# Altium schematic symbol library IC DCDC.SchLib: 15 symbols
Pins are listed as number, name and electrical type; pins without a type are passive.

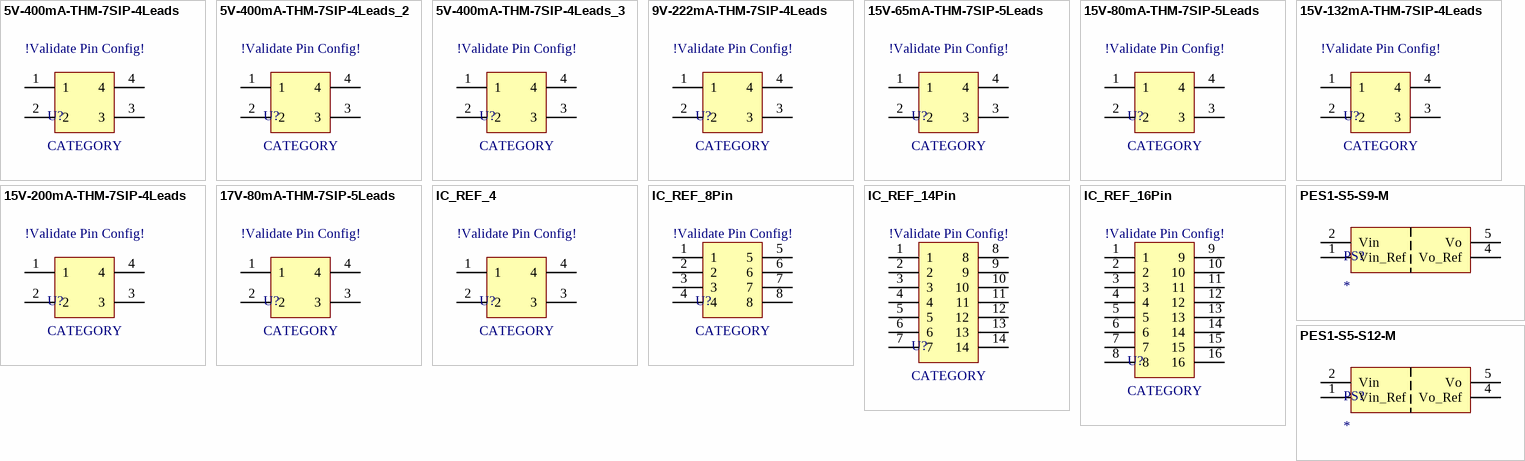
[diagram p0: symbols 5V-400mA-THM-7SIP-4Leads to PES1-S5-S12-M]

## 5V-400mA-THM-7SIP-4Leads
designator U?, comment CATEGORY
DC DC CONVERTER 5V 2W; ManufacturerReference: MEJ2S1505SC; Manufacturer: Murata Power Solutions Inc.; InventoryNumber: PD016; OutputCurrent: 400mA; Distributor: Digikey; DistributorReference: 811-2388-ND; PackageReference: 7SIP-4Leads; OutputVoltage: 5V
pins: 1, 2, 3, 4
text: !Validate Pin Config!

## 5V-400mA-THM-7SIP-4Leads_2
designator U?, comment CATEGORY
DC DC CONVERTER 5V 2W; ManufacturerReference: MEJ2S1505SC; Manufacturer: Murata Power Solutions Inc.; InventoryNumber: PD019; OutputCurrent: 400mA; Distributor: Digikey; DistributorReference: 811-2388-ND; PackageReference: 7SIP-4Leads; OutputVoltage: 5V
pins: 1, 2, 3, 4
text: !Validate Pin Config!

## 5V-400mA-THM-7SIP-4Leads_3
designator U?, comment CATEGORY
DC DC CONVERTER 5V 2W; ManufacturerReference: MEJ2S0505SC; Manufacturer: Murata Power Solutions Inc.; InventoryNumber: PD020; OutputCurrent: 400mA; Distributor: Digikey; DistributorReference: 811-2397-ND; PackageReference: 7SIP-4Leads; OutputVoltage: 5V
pins: 1, 2, 3, 4
text: !Validate Pin Config!

## 9V-222mA-THM-7SIP-4Leads
designator U?, comment CATEGORY
DC DC CONVERTER 9V 2W; ManufacturerReference: MEJ2S1509SC; Manufacturer: Murata Power Solutions Inc.; InventoryNumber: PD018; OutputCurrent: 222mA; Distributor: Digikey; DistributorReference: 811-2387-ND; PackageReference: 7SIP-4Leads; OutputVoltage: 9V
pins: 1, 2, 3, 4
text: !Validate Pin Config!

## 15V-65mA-THM-7SIP-5Leads
designator U?, comment CATEGORY
DC DC CONVERTER 15V 1W; ManufacturerReference: PI01S1215A; Manufacturer: Delta Electronics; InventoryNumber: PD023; OutputCurrent: 65mA; Distributor: Digikey; DistributorReference: 941-1207-ND; PackageReference: 7SIP-5Leads; OutputVoltage: 15V
pins: 1, 2, 3, 4
text: !Validate Pin Config!

## 15V-80mA-THM-7SIP-5Leads
designator U?, comment CATEGORY
DC DC CONVERTER 15V -8.7V 2W; ManufacturerReference: MGJ2D151509SC; Manufacturer: Murata Power Solutions Inc.; InventoryNumber: PD017; Distributor: Digikey; DistributorReference: 811-3005-5-ND; PackageReference: 7SIP-5Leads
pins: 1, 2, 3, 4
text: !Validate Pin Config!

## 15V-132mA-THM-7SIP-4Leads
designator U?, comment CATEGORY
DC DC CONVERTER 15V 2W; ManufacturerReference: R12P215S; Manufacturer: Recom Power; InventoryNumber: PD013; OutputCurrent: 132mA; Distributor: Digikey; DistributorReference: 945-2063-5-ND; PackageReference: 7SIP-4Leads; OutputVoltage: 15V
pins: 1, 2, 3, 4
text: !Validate Pin Config!

## 15V-200mA-THM-7SIP-4Leads
designator U?, comment CATEGORY
DC DC CONVERTER 15V 3W; ManufacturerReference: MEV3S1215SC; Manufacturer: Murata Power Solutions Inc.; InventoryNumber: PD021; OutputCurrent: 200mA; Distributor: Digikey; DistributorReference: 811-2123-5-ND; PackageReference: 7SIP-4Leads; OutputVoltage: 15V
pins: 1, 2, 3, 4
text: !Validate Pin Config!

## 17V-80mA-THM-7SIP-5Leads
designator U?, comment CATEGORY
DC DC CONVERTER 17V -8.6V 2W; ManufacturerReference: VQA-S15-D17-SIP; Manufacturer: CUI Inc.; InventoryNumber: PD022; OutputCurrent: 80mA; Distributor: Digikey; DistributorReference: 102-2881-ND; PackageReference: 7SIP-5Leads; OutputVoltage: 17V
pins: 1, 2, 3, 4
text: !Validate Pin Config!

## IC_REF_4
designator U?, comment CATEGORY
Distributor: Digikey; DistributorReference: *; InventoryNumber: *; PackageReference: *; ManufacturerReference: *; Manufacturer: *
pins: 1, 2, 3, 4
text: !Validate Pin Config!

## IC_REF_8Pin
designator U?, comment CATEGORY
Distributor: Digikey; DistributorReference: *; InventoryNumber: *; PackageReference: *; ManufacturerReference: *
pins: 1, 2, 3, 4, 5, 6, 7, 8
text: !Validate Pin Config!

## IC_REF_14Pin
designator U?, comment CATEGORY
Distributor: Digikey; DistributorReference: *; InventoryNumber: *; PackageReference: *; ManufacturerReference: *
pins: 1, 2, 3, 4, 5, 6, 7, 8, 9, 10, 11, 12, 13, 14
text: !Validate Pin Config!

## IC_REF_16Pin
designator U?, comment CATEGORY
Distributor: Digikey; DistributorReference: *; InventoryNumber: *; PackageReference: *; ManufacturerReference: *
pins: 1, 2, 3, 4, 5, 6, 7, 8, 9, 10, 11, 12, 13, 14, 15, 16
text: !Validate Pin Config!

## PES1-S5-S9-M
designator PS?
DC/DC Converter isolated 5V-9V 1W; ManufacturerReference: PES1-S5-S9-M; ManufacturerName: CUI; DistributorReference: 102-2980-1-ND; PackageReference: *; DistributorName: Digi-Key
footprint PES1-S5-S9-M (DC/DC CONVERTER 9V 1W)
pins: 1 Vin_Ref (power), 2 Vin (power), 4 Vo_Ref (power), 5 Vo (power)

## PES1-S5-S12-M
designator PS?
DC/DC Converter isolated 5V-12V 1W; ManufacturerReference: PES1-S5-S12-M; ManufacturerName: CUI; DistributorReference: 102-2695-1-ND; PackageReference: *; DistributorName: Digi-Key
footprint PES1-S5-S9-M (DC/DC CONVERTER 9V 1W)
pins: 1 Vin_Ref (power), 2 Vin (power), 4 Vo_Ref (power), 5 Vo (power)